# Altium schematic symbol library SFR03EZPJ102.SchLib: 1 symbol
Pins are listed as number, name and electrical type; pins without a type are passive.

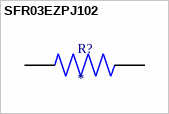
[diagram p0: symbol SFR03EZPJ102]

## SFR03EZPJ102
designator R?
MP: SFR03EZPJ102; Package: None; Price: None; Value: *; Availability: Unavailable
footprint RESC1608X55N
pins: 1, 2